# Altium schematic symbol library Schlib1.SchLib: 6 symbols
Pins are listed as number, name and electrical type; pins without a type are passive.

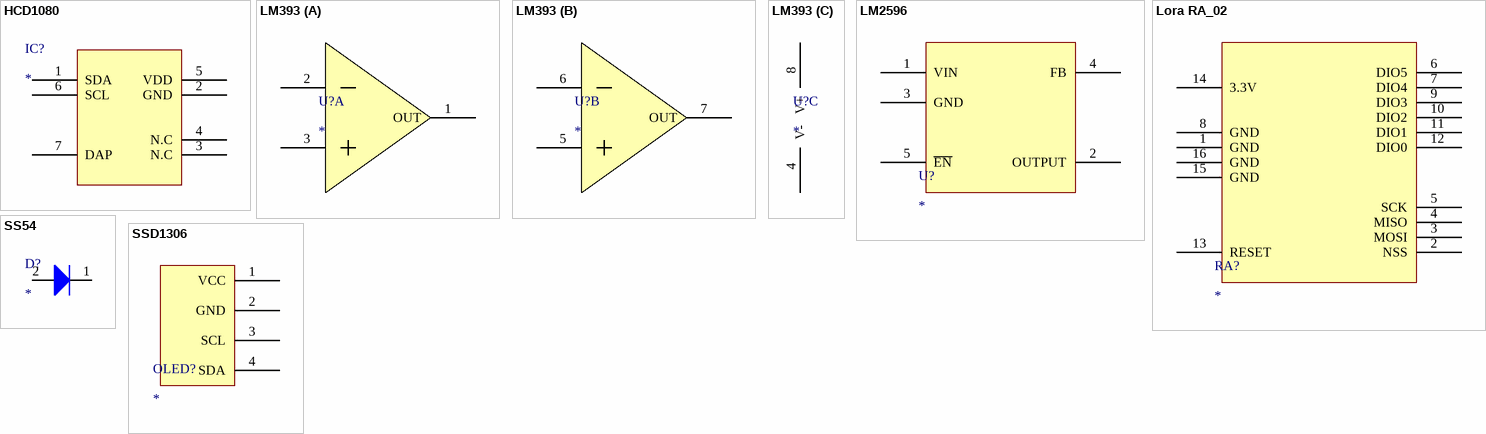
[diagram p0: symbols HCD1080 to SSD1306]

## HCD1080
designator IC?
footprint HDC1080
pins: 1 SDA, 2 GND, 3 N.C, 4 N.C, 5 VDD, 6 SCL, 7 DAP

## LM393
designator U?
footprint LM393 (SOP, 8-Leads, Body 4,90x3,90mm, Pitch 1,27mm, IPC Medium Density)
part A pins: 1 OUT, 2 -, 3 +
part B pins: 5 +, 6 -, 7 OUT
part C pins: 4 V-, 8 V+

## LM2596
designator U?
footprint LM2596
pins: 1 VIN, 2 OUTPUT, 3 GND, 4 FB, 5 ~{EN}

## Lora RA_02
designator RA?
footprint SOP16
pins: 1 GND, 2 NSS, 3 MOSI, 4 MISO, 5 SCK, 6 DIO5, 7 DIO4, 8 GND, 9 DIO3, 10 DIO2, 11 DIO1, 12 DIO0, 13 RESET, 14 3.3V, 15 GND, 16 GND

## SS54
designator D?
footprint Diode_SS54
pins: 1, 2

## SSD1306
designator OLED?
footprint SSD1306
pins: 1 VCC, 2 GND, 3 SCL, 4 SDA